# Altium footprint library ECHU1H223GX5.PcbLib: 3 footprints
Each footprint in its own frame and in the unit in brackets; x right, y up, seen from the top. Pads: shape width x height; smd on the part's side, far side on the other; paste and mask are expansions set on the pad; w line width, h text height; cw(c..) or ccw(c..) is an arc to the next point about the centre after c.
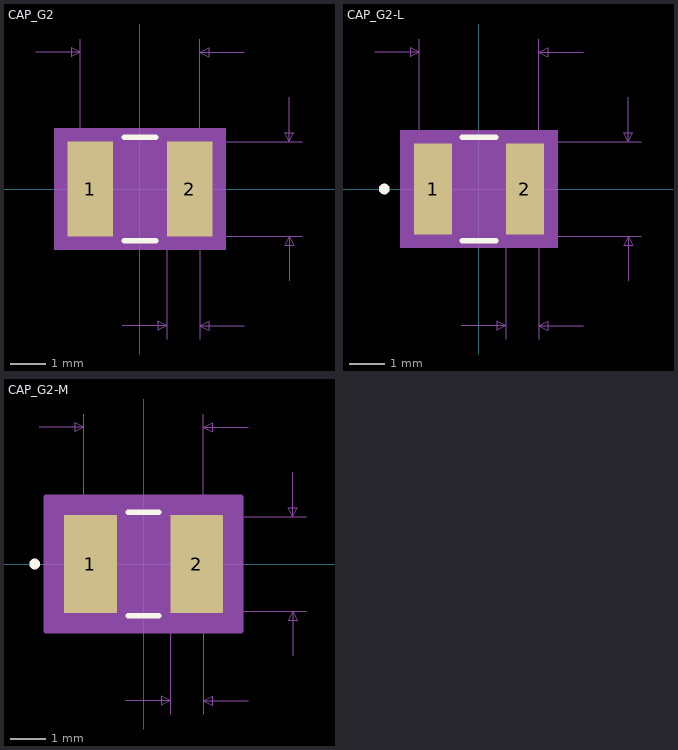
[diagram p0: the footprints below, top view; thin cyan lines are the x and y axes]

## CAP_G2 [mil]
pads (2):
  rect 51x106 smd paste+0 mask+0: 1(-55.5,0) 2(55.5,0)
Top Overlay:
  lines w6: -17.89,-58 17.89,-58 ; -17.89,58 17.89,58
Mechanical 5:
  region: 96,-68 -96,-68 -96,68 96,68
Mechanical 7:
  lines w1: -117,153 -67,153 ; -67,0 -67,168 ; -20,-153 30,-153 ; 0,-53 182,-53 ; 0,53 182,53 ; 30,-168 30,0 ; 67,-168 67,0 67,168 ; 117,-153 67,-153 ; 117,153 67,153 ; 167,-103 167,-53 ; 167,103 167,53 ; -67,153 -77,158 -77,148 -67,153 ; 30,-153 20,-148 20,-158 30,-153 ; 67,-153 77,-148 77,-158 67,-153 ; 67,153 77,158 77,148 67,153 ; 167,-53 162,-63 172,-63 167,-53 ; 167,53 162,63 172,63 167,53
  text "Default Padstyle: RX51Y106D0T" at -362.5,-323 h50
  text "Alternate 1 Padstyle: OX60Y90D30P" at -412.5,-423 h50
  text "Alternate 2 Padstyle: OX90Y60D30P" at -412.5,-523 h50
  text "0.106in/2.692mm" at 187,-12.5 h25
  text "0.134in/3.404mm" at -93.75,173 h25
  text "0.037in/0.94mm" at -39,-198 h25
Mechanical 13:
  circle w0: c-50.5,0 r0
  lines w1: -67,-53 -67,53 ; -67,-53 -30,-53 -30,53 -67,53 ; -67,-53 67,-53 ; -67,-53 -67,53 ; -67,53 67,53 ; 67,-53 30,-53 30,53 67,53 ; 67,-53 67,53 ; 67,-53 67,53
Mechanical 15:
  region: 91,-63 -91,-63 -91,63 91,63
  lines w6: -91,-63 -91,63 91,63 91,-63 -91,-63
3D body: height 10, standoff 0, extent 0,0 10,10

## CAP_G2-L [mil]
pads (2):
  rect 43x102 smd paste+0 mask+0: 1(-51.5,0) 2(51.5,0)
Top Overlay:
  circle w6: c-106,0 r3
  lines w6: -18.93,-58 18.93,-58 ; -18.93,58 18.93,58
Mechanical 5:
  region: 88,-66 -88,-66 -88,66 88,66
Mechanical 7:
  lines w1: -117,153 -67,153 ; -67,0 -67,168 ; -20,-153 30,-153 ; 0,-53 182,-53 ; 0,53 182,53 ; 30,-168 30,0 ; 67,-168 67,0 67,168 ; 117,-153 67,-153 ; 117,153 67,153 ; 167,-103 167,-53 ; 167,103 167,53 ; -67,153 -77,158 -77,148 -67,153 ; 30,-153 20,-148 20,-158 30,-153 ; 67,-153 77,-148 77,-158 67,-153 ; 67,153 77,158 77,148 67,153 ; 167,-53 162,-63 172,-63 167,-53 ; 167,53 162,63 172,63 167,53
  text "Default Padstyle: RX43Y102D0T" at -362.5,-321 h50
  text "Alternate 1 Padstyle: OX60Y90D30P" at -412.5,-421 h50
  text "Alternate 2 Padstyle: OX90Y60D30P" at -412.5,-521 h50
  text "0.106in/2.692mm" at 187,-12.5 h25
  text "0.134in/3.404mm" at -93.75,173 h25
  text "0.037in/0.94mm" at -39,-198 h25
Mechanical 13:
  circle w0: c-46.5,0 r3
  lines w1: -67,-53 -67,53 ; -67,-53 -30,-53 -30,53 -67,53 ; -67,-53 67,-53 ; -67,-53 -67,53 ; -67,53 67,53 ; 67,-53 30,-53 30,53 67,53 ; 67,-53 67,53 ; 67,-53 67,53
Mechanical 15:
  region: 77,-55 -77,-55 -77,55 77,55
  lines w6: -77,-55 -77,55 77,55 77,-55 -77,-55
3D body: height 10, standoff 0, extent 0,0 10,10

## CAP_G2-M [mil]
pads (2):
  rect 59x110 smd paste+0 mask+0: 1(-59.5,0) 2(59.5,0)
Top Overlay:
  circle w6: c-122,0 r3
  lines w6: -17.25,-58 17.25,-58 ; -17.25,58 17.25,58
Mechanical 5:
  region: 104,-70 -104,-70 -104,70 104,70
Mechanical 7:
  lines w1: -117,153 -67,153 ; -67,0 -67,168 ; -20,-153 30,-153 ; 0,-53 182,-53 ; 0,53 182,53 ; 30,-168 30,0 ; 67,-168 67,0 67,168 ; 117,-153 67,-153 ; 117,153 67,153 ; 167,-103 167,-53 ; 167,103 167,53 ; -67,153 -77,158 -77,148 -67,153 ; 30,-153 20,-148 20,-158 30,-153 ; 67,-153 77,-148 77,-158 67,-153 ; 67,153 77,158 77,148 67,153 ; 167,-53 162,-63 172,-63 167,-53 ; 167,53 162,63 172,63 167,53
  text "Default Padstyle: RX59Y110D0T" at -362.5,-325 h50
  text "Alternate 1 Padstyle: OX60Y90D30P" at -412.5,-425 h50
  text "Alternate 2 Padstyle: OX90Y60D30P" at -412.5,-525 h50
  text "0.106in/2.692mm" at 187,-12.5 h25
  text "0.134in/3.404mm" at -93.75,173 h25
  text "0.037in/0.94mm" at -39,-198 h25
Mechanical 13:
  circle w0: c-54.5,0 r3
  lines w1: -67,-53 -67,53 ; -67,-53 -30,-53 -30,53 -67,53 ; -67,-53 67,-53 ; -67,-53 -67,53 ; -67,53 67,53 ; 67,-53 30,-53 30,53 67,53 ; 67,-53 67,53 ; 67,-53 67,53
Mechanical 15:
  region: 109,-75 -109,-75 -109,75 109,75
  lines w6: -109,-75 -109,75 109,75 109,-75 -109,-75
3D body: height 10, standoff 0, extent 0,0 10,10